# Altium footprint library Inductor_SMD.PcbLib: 587 footprints (part 30 of 37)
Each footprint in its own frame and in the unit in brackets; x right, y up, seen from the top. Pads: shape width x height; smd on the part's side, far side on the other; paste and mask are expansions set on the pad; w line width, h text height; cw(c..) or ccw(c..) is an arc to the next point about the centre after c.
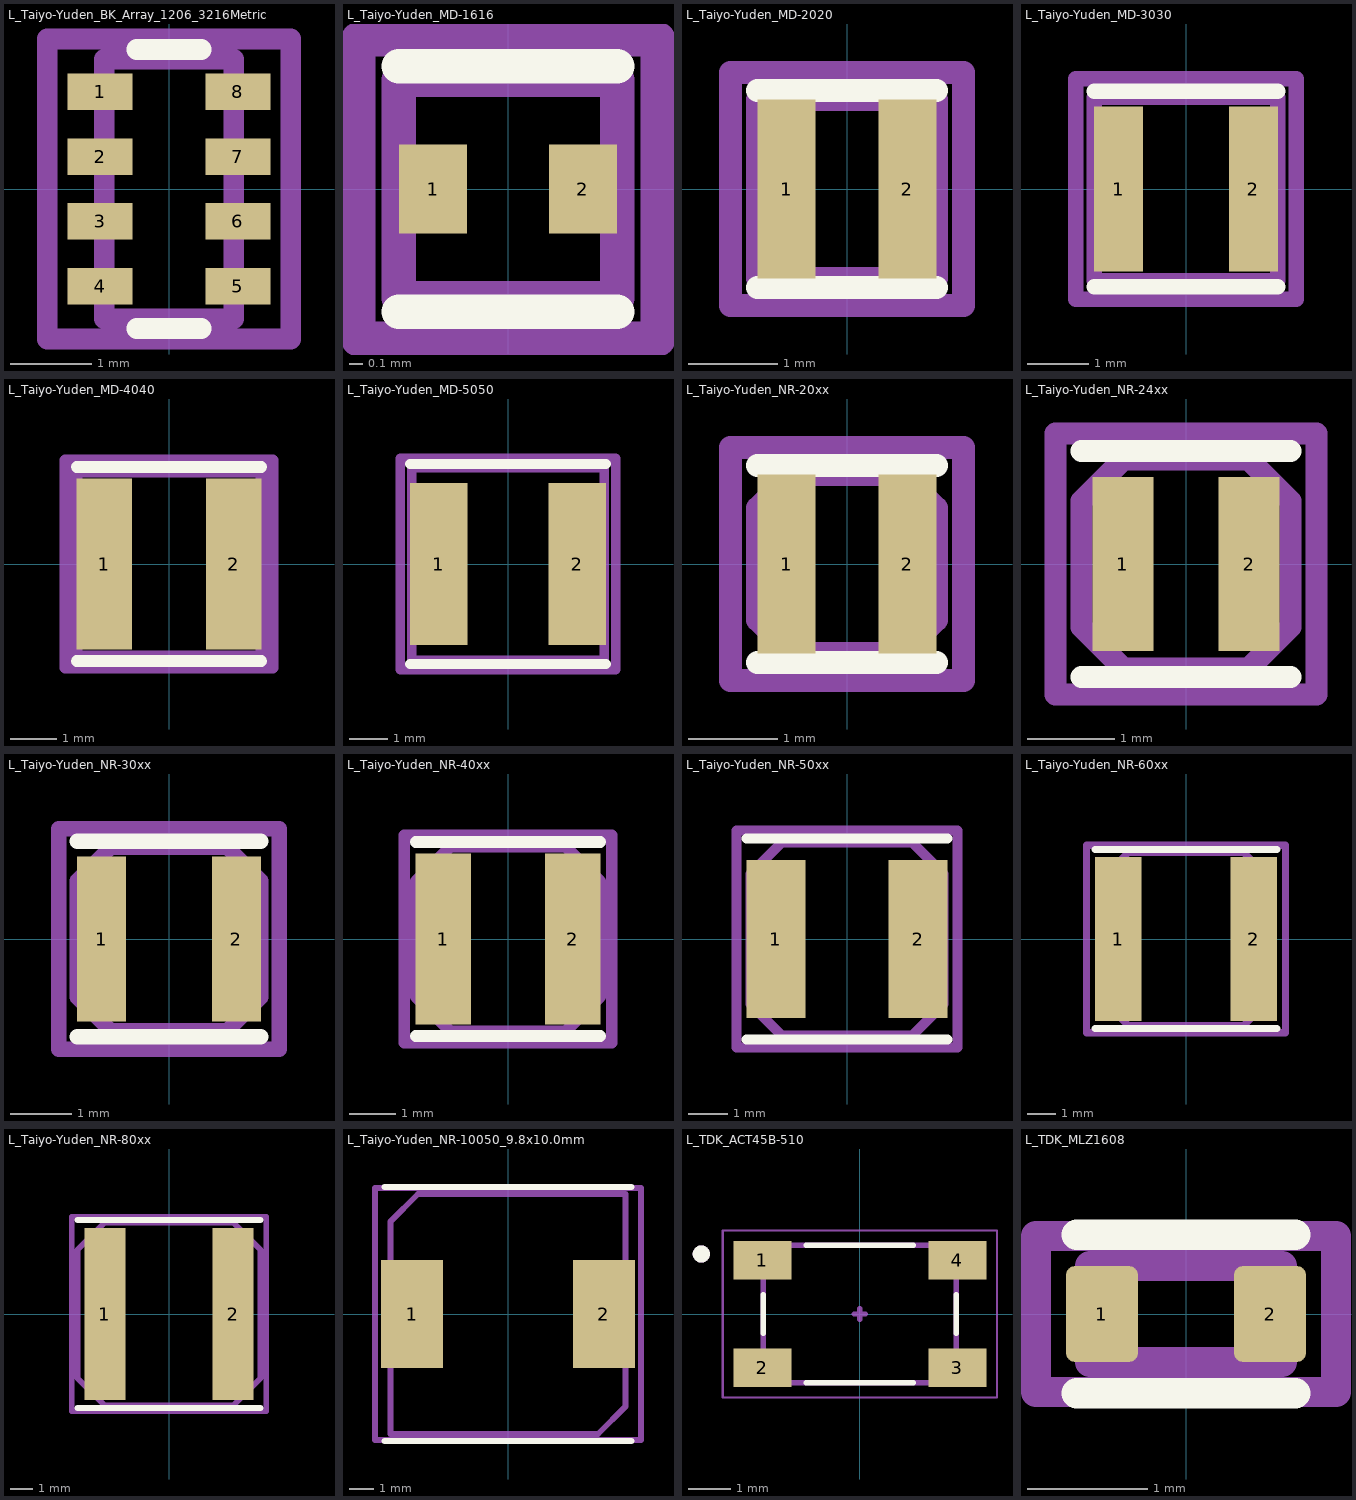
[diagram p29: the footprints below, top view; thin cyan lines are the x and y axes]

## L_Taiyo-Yuden_BK_Array_1206_3216Metric [mm] "L_Taiyo-Yuden_BK_Array_1206_3216Metric"
pads (8):
  rect 0.8x0.45 smd: 1(-0.85,1.2) 2(-0.85,0.4) 3(-0.85,-0.4) 4(-0.85,-1.2) 5(0.85,-1.2) 6(0.85,-0.4) 7(0.85,0.4) 8(0.85,1.2)
F.SilkS:
  lines w0.254: -0.4,-1.72 0.4,-1.72 ; -0.4,1.72 0.4,1.72
Top Assembly:
  lines w0.254: -0.8,-1.6 0.8,-1.6 0.8,1.6 -0.8,1.6 -0.8,-1.6
  text "'.Designator'" at 0.672,-3.237 h0.8
Top Courtyard:
  lines w0.254: -1.5,-1.85 1.5,-1.85 1.5,1.85 -1.5,1.85 -1.5,-1.85
Top Designator:
  text ".Designator" at -7.618,-0.628 h1.52

## L_Taiyo-Yuden_MD-1616 [mm] "L_Taiyo-Yuden_MD-1616"
pads (2):
  rect 0.5x0.65 smd: 1(-0.55,0) 2(0.55,0)
F.SilkS:
  lines w0.254: -0.8,-0.9 0.8,-0.9 ; -0.8,0.9 0.8,0.9
Top Assembly:
  lines w0.254: -0.8,-0.8 0.8,-0.8 0.8,0.8 -0.8,0.8 -0.8,-0.8
  text "'.Designator'" at -1.219,-0.257 h0.3
Top Courtyard:
  lines w0.254: -1.1,-1.1 1.1,-1.1 1.1,1.1 -1.1,1.1 -1.1,-1.1
Top Designator:
  text ".Designator" at -7.639,-0.508 h1.52

## L_Taiyo-Yuden_MD-2020 [mm] "L_Taiyo-Yuden_MD-2020"
pads (2):
  rect 0.65x2 smd: 1(-0.675,0) 2(0.675,0)
F.SilkS:
  lines w0.254: -1,-1.1 1,-1.1 ; -1,1.1 1,1.1
Top Assembly:
  lines w0.254: -1,-1 -1,1 1,1 1,-1 -1,-1
  text "'.Designator'" at -2.023,-0.42 h0.5
Top Courtyard:
  lines w0.254: -1.3,-1.3 -1.3,1.3 1.3,1.3 1.3,-1.3 -1.3,-1.3
Top Designator:
  text ".Designator" at -7.693,-0.508 h1.52

## L_Taiyo-Yuden_MD-3030 [mm] "L_Taiyo-Yuden_MD-3030"
pads (2):
  rect 0.8x2.7 smd: 1(-1.1,0) 2(1.1,0)
F.SilkS:
  lines w0.254: -1.5,-1.6 1.5,-1.6 ; -1.5,1.6 1.5,1.6
Top Assembly:
  lines w0.254: -1.5,-1.5 -1.5,1.5 1.5,1.5 1.5,-1.5 -1.5,-1.5
  text "'.Designator'" at -2.833,-0.588 h0.7
Top Courtyard:
  lines w0.254: -1.8,-1.8 -1.8,1.8 1.8,1.8 1.8,-1.8 -1.8,-1.8
Top Designator:
  text ".Designator" at -7.723,-0.508 h1.52

## L_Taiyo-Yuden_MD-4040 [mm] "L_Taiyo-Yuden_MD-4040"
pads (2):
  rect 1.2x3.7 smd: 1(-1.4,0) 2(1.4,0)
F.SilkS:
  lines w0.254: -2,-2.1 2,-2.1 ; -2,2.1 2,2.1
Top Assembly:
  lines w0.254: -2,-2 -2,2 2,2 2,-2 -2,-2
  text "'.Designator'" at -4.047,-0.84 h1
Top Courtyard:
  lines w0.254: -2.25,-2.25 -2.25,2.25 2.25,2.25 2.25,-2.25 -2.25,-2.25
Top Designator:
  text ".Designator" at -7.768,-0.508 h1.52

## L_Taiyo-Yuden_MD-5050 [mm] "L_Taiyo-Yuden_MD-5050"
pads (2):
  rect 1.5x4.2 smd: 1(-1.8,0) 2(1.8,0)
F.SilkS:
  lines w0.254: -2.55,-2.6 2.55,-2.6 ; -2.55,2.6 2.55,2.6
Top Assembly:
  lines w0.254: -2.5,-2.5 -2.5,2.5 2.5,2.5 2.5,-2.5 -2.5,-2.5
  text "'.Designator'" at -4.047,-0.84 h1
Top Courtyard:
  lines w0.254: -2.8,-2.75 -2.8,2.75 2.8,2.75 2.8,-2.75 -2.8,-2.75
Top Designator:
  text ".Designator" at -7.768,-0.508 h1.52

## L_Taiyo-Yuden_NR-20xx [mm] "L_Taiyo-Yuden_NR-20xx"
pads (2):
  rect 0.65x2 smd: 1(-0.675,0) 2(0.675,0)
F.SilkS:
  lines w0.254: -1,-1.1 1,-1.1 ; -1,1.1 1,1.1
Top Assembly:
  lines w0.254: -1,-0.625 -1,0.625 -0.625,1 0.625,1 1,0.625 1,-0.625 0.625,-1 -0.625,-1 -1,-0.625
  text "'.Designator'" at -2.023,-0.42 h0.5
Top Courtyard:
  lines w0.254: -1.3,-1.3 -1.3,1.3 1.3,1.3 1.3,-1.3 -1.3,-1.3
Top Designator:
  text ".Designator" at -7.693,-0.508 h1.52

## L_Taiyo-Yuden_NR-24xx [mm] "L_Taiyo-Yuden_NR-24xx"
pads (2):
  rect 0.7x2 smd: 1(-0.725,0) 2(0.725,0)
F.SilkS:
  lines w0.254: -1.2,-1.3 1.2,-1.3 ; -1.2,1.3 1.2,1.3
Top Assembly:
  lines w0.254: -1.2,-0.725 -1.2,0.725 -0.725,1.2 0.725,1.2 1.2,0.725 1.2,-0.725 0.725,-1.2 -0.725,-1.2 -1.2,-0.725
  text "'.Designator'" at -2.023,-0.42 h0.5
Top Courtyard:
  lines w0.254: -1.5,-1.5 -1.5,1.5 1.5,1.5 1.5,-1.5 -1.5,-1.5
Top Designator:
  text ".Designator" at -7.693,-0.508 h1.52

## L_Taiyo-Yuden_NR-30xx [mm] "L_Taiyo-Yuden_NR-30xx"
pads (2):
  rect 0.8x2.7 smd: 1(-1.1,0) 2(1.1,0)
F.SilkS:
  lines w0.254: -1.5,-1.6 1.5,-1.6 ; -1.5,1.6 1.5,1.6
Top Assembly:
  lines w0.254: -1.5,-0.95 -1.5,0.95 -0.95,1.5 0.95,1.5 1.5,0.95 1.5,-0.95 0.95,-1.5 -0.95,-1.5 -1.5,-0.95
  text "'.Designator'" at -2.833,-0.588 h0.7
Top Courtyard:
  lines w0.254: -1.8,-1.8 -1.8,1.8 1.8,1.8 1.8,-1.8 -1.8,-1.8
Top Designator:
  text ".Designator" at -7.723,-0.508 h1.52

## L_Taiyo-Yuden_NR-40xx [mm] "L_Taiyo-Yuden_NR-40xx"
pads (2):
  rect 1.2x3.7 smd: 1(-1.4,0) 2(1.4,0)
F.SilkS:
  lines w0.254: -2,-2.1 2,-2.1 ; -2,2.1 2,2.1
Top Assembly:
  lines w0.254: -2,-1.25 -2,1.25 -1.25,2 1.25,2 2,1.25 2,-1.25 1.25,-2 -1.25,-2 -2,-1.25
  text "'.Designator'" at -4.047,-0.84 h1
Top Courtyard:
  lines w0.254: -2.25,-2.25 -2.25,2.25 2.25,2.25 2.25,-2.25 -2.25,-2.25
Top Designator:
  text ".Designator" at -7.768,-0.508 h1.52

## L_Taiyo-Yuden_NR-50xx [mm] "L_Taiyo-Yuden_NR-50xx"
pads (2):
  rect 1.5x4 smd: 1(-1.8,0) 2(1.8,0)
F.SilkS:
  lines w0.254: -2.55,-2.55 2.55,-2.55 ; -2.55,2.55 2.55,2.55
Top Assembly:
  lines w0.254: -2.45,-1.65 -2.45,1.65 -1.65,2.45 1.65,2.45 2.45,1.65 2.45,-1.65 1.65,-2.45 -1.65,-2.45 -2.45,-1.65
  text "'.Designator'" at -4.047,-0.84 h1
Top Courtyard:
  lines w0.254: -2.8,-2.75 -2.8,2.75 2.8,2.75 2.8,-2.75 -2.8,-2.75
Top Designator:
  text ".Designator" at -7.768,-0.508 h1.52

## L_Taiyo-Yuden_NR-60xx [mm] "L_Taiyo-Yuden_NR-60xx"
pads (2):
  rect 1.6x5.7 smd: 1(-2.35,0) 2(2.35,0)
F.SilkS:
  lines w0.254: -3.15,-3.1 3.15,-3.1 ; -3.15,3.1 3.15,3.1
Top Assembly:
  lines w0.254: -3,-2 -2,-3 2,-3 3,-2 3,2 2,3 -2,3 -3,2 -3,-2
  text "'.Designator'" at -4.047,-0.84 h1
Top Courtyard:
  lines w0.254: -3.45,-3.25 3.45,-3.25 3.45,3.25 -3.45,3.25 -3.45,-3.25
Top Designator:
  text ".Designator" at -7.768,-0.508 h1.52

## L_Taiyo-Yuden_NR-80xx [mm] "L_Taiyo-Yuden_NR-80xx"
pads (2):
  rect 1.8x7.5 smd: 1(-2.8,0) 2(2.8,0)
F.SilkS:
  lines w0.254: -4,-4.1 4,-4.1 ; -4,4.1 4,4.1
Top Assembly:
  lines w0.254: -4,-2.8 -2.8,-4 2.8,-4 4,-2.8 4,2.8 2.8,4 -2.8,4 -4,2.8 -4,-2.8
  text "'.Designator'" at -4.047,-0.84 h1
Top Courtyard:
  lines w0.254: -4.25,-4.25 4.25,-4.25 4.25,4.25 -4.25,4.25 -4.25,-4.25
Top Designator:
  text ".Designator" at -7.618,-0.508 h1.52

## L_Taiyo-Yuden_NR-10050_9.8x10.0mm [mm] "L_Taiyo-Yuden_NR-10050_9.8x10.0mm"
pads (2):
  rect 2.6x4.5 smd: 1(-4,0) 2(4,0)
F.SilkS:
  lines w0.254: -5.15,-5.3 5.15,-5.3 ; -5.15,5.3 5.15,5.3
Top Assembly:
  lines w0.254: -4.9,-5 -4.9,3.85 -3.75,5 4.9,5 4.9,-3.85 3.75,-5 -4.9,-5
  text "'.Designator'" at -4.047,-0.84 h1
Top Courtyard:
  lines w0.254: -5.55,-5.25 -5.55,5.25 5.55,5.25 5.55,-5.25 -5.55,-5.25
Top Designator:
  text ".Designator" at -7.618,-0.508 h1.52

## L_TDK_ACT45B-510 [mm]
pads (4):
  rect 1.35x0.9 smd: 1(-2.275,1.25) 2(-2.275,-1.25) 3(2.275,-1.25) 4(2.275,1.25)
F.SilkS:
  circle w0.2: c-3.7,1.4 r0.1
  lines w0.127: -2.25,-0.45 -2.25,0.45 ; -1.25,-1.6 1.25,-1.6 ; -1.25,1.6 1.25,1.6 ; 2.25,-0.45 2.25,0.45
Top Component Center:
  lines w0.127: -0.127,0 0.127,0 ; 0,-0.127 0,0.127
Top Assembly:
  circle w0.2: c-3.7,1.4 r0.1
  lines w0.127: -2.25,-1.6 -2.25,1.6 2.25,1.6 2.25,-1.6 -2.25,-1.6
Top Courtyard:
  lines w0.05: -3.2,-1.95 -3.2,1.95 3.2,1.95 3.2,-1.95 -3.2,-1.95
Top Designator:
  text ".Designator" at -3.434,-0.345 h1.52
3D body "L_TDK_ACT45B-510.step": height 3, standoff 0, extent -2.25,-1.6 2.25,1.6

## L_TDK_MLZ1608 [mm] "L_TDK_MLZ1608"
pads (2):
  rrect25% 0.6x0.8 smd: 1(-0.7,0) 2(0.7,0)
F.SilkS:
  lines w0.254: -0.91,-0.66 0.91,-0.66 ; -0.91,0.66 0.91,0.66
Top Assembly:
  lines w0.254: -0.8,-0.4 0.8,-0.4 0.8,0.4 -0.8,0.4 -0.8,-0.4
  text "'.Designator'" at -1.619,-0.336 h0.4
Top Courtyard:
  lines w0.254: -1.25,-0.65 1.25,-0.65 1.25,0.65 -1.25,0.65 -1.25,-0.65
Top Designator:
  text ".Designator" at -7.678,-0.508 h1.52